# Altium schematic symbol library PI4MSD5V9540BUEX.Schlib: 1 symbol
Pins are listed as number, name and electrical type; pins without a type are passive.

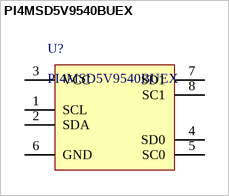
[diagram p0: symbol PI4MSD5V9540BUEX]

## PI4MSD5V9540BUEX
designator U?
WiFi 802.11b/g/n Transceiver Module 2.4GHz ~ 2.5GHz Integrated, Chip + IPEX Surface Mount
pins: 1 SCL, 2 SDA, 3 VCC (power), 4 SD0 (oc), 5 SC0 (oc), 6 GND (power), 7 SD1 (oc), 8 SC1 (oc)